# EAGLE library part MAX6241 (library jason_eagle6)
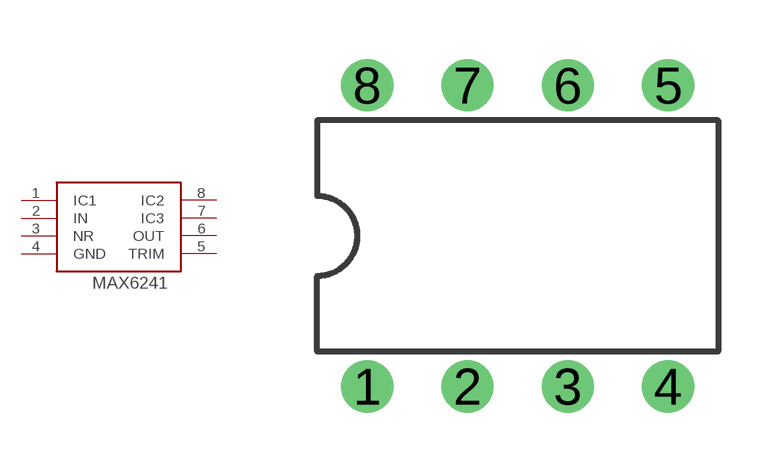
[diagram p23: symbol with the pads of DIL08; footprint DIL08]

Designator prefix -

## MAX6241  [DIL08]
1  IC1
2  IN
3  NR
4  GND
5  TRIM
6  OUT
7  IC3
8  IC2

## Footprint DIL08 (pad centres in mm)
Dual In Line Package
drill 0.813 pad 1.27: 1 -3.81,-3.81; 2 -1.27,-3.81; 3 1.27,-3.81; 4 3.81,-3.81; 5 3.81,3.81; 6 1.27,3.81; 7 -1.27,3.81; 8 -3.81,3.81